# Altium footprint library Capacitors.PcbLib: 22 footprints (part 1 of 2)
Each footprint in its own frame and in the unit in brackets; x right, y up, seen from the top. Pads: shape width x height; smd on the part's side, far side on the other; paste and mask are expansions set on the pad; w line width, h text height; cw(c..) or ccw(c..) is an arc to the next point about the centre after c.
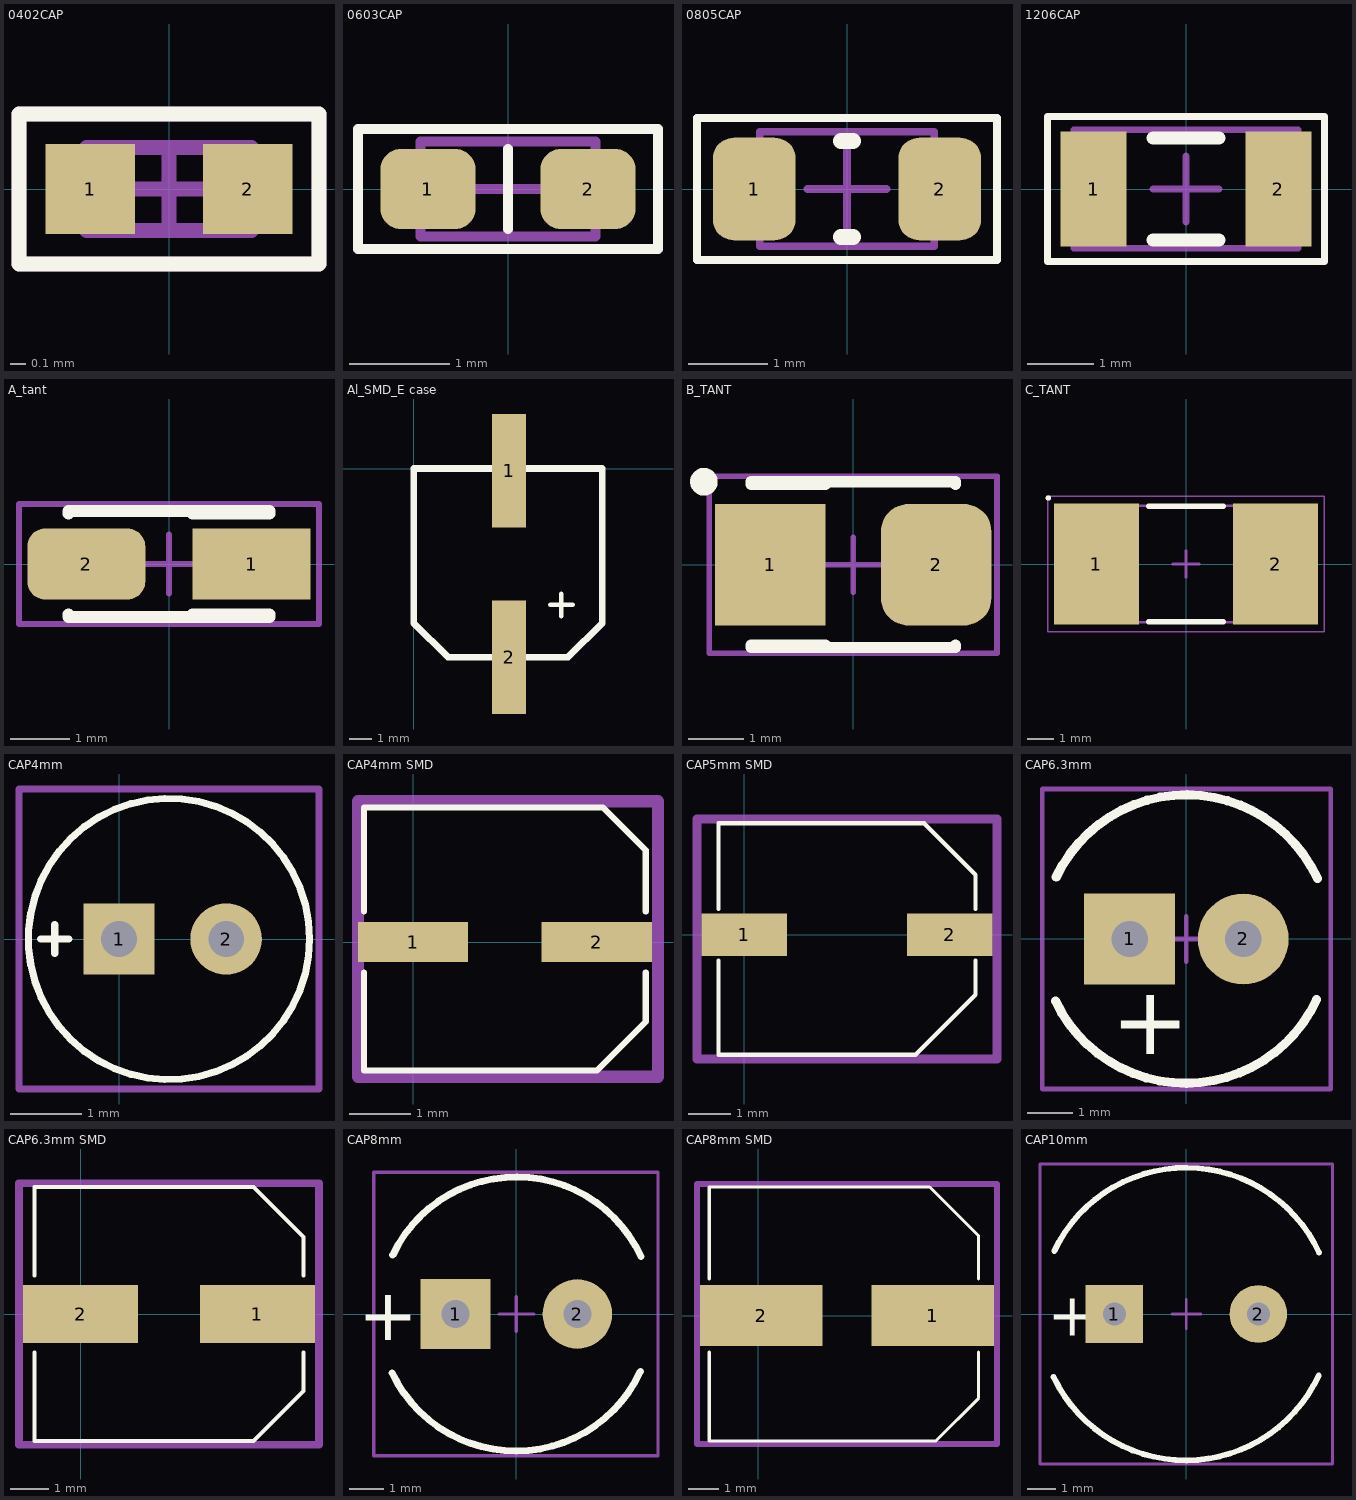
[diagram p0: the footprints below, top view; thin cyan lines are the x and y axes]

## 0402CAP [mm] "Chip Capacitor, 2-Leads, Body 1,1x0,5mm, IPC High Density"
height 0.6
pads (2):
  rect 0.6x0.6 smd: 1(-0.525,0) 2(0.525,0)
Top Overlay:
  lines w0.1: -1,-0.5 -1,0.5 1,0.5 1,-0.5 -1,-0.5
Mechanical 13:
  lines w0.1: -0.55,-0.275 0.55,-0.275 0.55,0.275 -0.55,0.275 -0.55,-0.275
Mechanical 15:
  lines w0.1: -0.275,0 0.275,0 ; 0,-0.275 0,0.275 ; -1,-0.5 1,-0.5 1,0.5 -1,0.5 -1,-0.5
3D body "0402 SMD Capacitor.step": height 0.2, standoff 0, extent -0.5,-0.3 0.5,0.3

## 0603CAP [mm] "Chip Capacitor, 2-Leads, Body 1,7x0,9mm, IPC High Density"
height 0.9
pads (2):
  rrect50% 0.95x0.8 smd: 1(-0.8,0) 2(0.8,0)
Top Overlay:
  lines w0.1: 0,-0.4 0,0.4 ; -1.5,-0.6 -1.5,0.6 1.5,0.6 1.5,-0.6 -1.5,-0.6
Mechanical 13:
  lines w0.1: -0.875,-0.475 0.875,-0.475 0.875,0.475 -0.875,0.475 -0.875,-0.475
Mechanical 15:
  lines w0.1: -0.475,0 0.475,0 ; 0,-0.475 0,0.475 ; -1.5,-0.6 1.5,-0.6 1.5,0.6 -1.5,0.6 -1.5,-0.6
3D body "0603 SMD Capacitor.step": height 0.3, standoff 0, extent -0.8,-0.4 0.8,0.4

## 0805CAP [mm] "Chip Capacitor, 2-Leads, Body 2,1x1,4mm, IPC High Density"
height 1.3
pads (2):
  rrect50% 1.05x1.3 smd: 1(-1.175,0) 2(1.175,0)
Top Overlay:
  lines w0.1: -1.9,-0.9 1.9,-0.9 1.9,0.9 -1.9,0.9 -1.9,-0.9
  lines w0.2: -0.076,-0.61 0.076,-0.61 ; -0.076,0.61 0.076,0.61
Mechanical 13:
  lines w0.1: -1.105,-0.725 -1.105,0.725 1.105,0.725 1.105,-0.725 -1.105,-0.725
Mechanical 15:
  lines w0.1: -0.5,0 0.5,0 ; 0,-0.5 0,0.5 ; -1.9,-0.9 1.9,-0.9 1.9,0.9 -1.9,0.9 -1.9,-0.9
3D body "0805 SMD Capacitor.step": height 0.78, standoff 0, extent -1,-0.625 1,0.625

## 1206CAP [mm] "Chip Capacitor, 2-Leads, Body 3,3x1,7mm, IPC High Density"
height 1.5
pads (2):
  rect 1x1.75 smd: 1(-1.4,0) 2(1.4,0)
Top Overlay:
  lines w0.1: -2.1,-1.1 -2.1,1.1 2.1,1.1 2.1,-1.1 -2.1,-1.1
  lines w0.2: -0.5,-0.775 0.5,-0.775 ; -0.5,0.775 0.5,0.775
Mechanical 13:
  lines w0.1: -1.7,-0.9 1.7,-0.9 1.7,0.9 -1.7,0.9 -1.7,-0.9
Mechanical 15:
  lines w0.1: -0.5,0 0.5,0 ; 0,-0.5 0,0.5 ; -2.1,-1.1 2.1,-1.1 2.1,1.1 -2.1,1.1 -2.1,-1.1
3D body "1206 SMD Capacitor.step": height 1, standoff 0, extent -1.6,-0.8 1.6,0.8

## A_tant [mm] "Capacitor, SM Tantalum; Body 3.2 x 1.6 mm (LxW typ)"
height 1.8
pads (2):
  rect 2x1.2 smd: 1(1.4,0)
  rrect50% 2x1.2 smd: 2(-1.4,0)
Top Overlay:
  lines w0.2: -1.7,-0.85 -1.7,-0.9 1.7,-0.9 ; -1.7,0.85 -1.7,0.9 1.7,0.9 ; 0.4,-0.85 1.7,-0.85 ; 0.4,0.85 1.7,0.85
Mechanical 15:
  lines w0.1: -0.5,0 0.5,0 ; 0,-0.5 0,0.5 ; -2.54,-1.016 -2.54,1.016 2.54,1.016 2.54,-1.016 -2.54,-1.016
3D body "User Library-CaseA_3216-18.step": height 1.6, standoff 0, extent -1.6,-0.8 1.6,0.8

## Al_SMD_E case [mm]
pads (2):
  rect 1.5x5 smd: 1(4.2,-0.1) 2(4.2,-8.3)
Top Overlay:
  lines w0.2: 6,-6 7,-6 ; 6.5,-6.5 6.5,-5.5
  lines w0.3: 0,-6.8 0,0 8.3,0 8.3,-0.9 8.3,-6.8 6.8,-8.3 5.4,-8.3 1.5,-8.3 0,-6.8

## B_TANT [mm] "Capacitor, SM Tantalum; Body 3.5 x 2.8 mm (LxW typ)"
height 2.1
pads (2):
  rect 2x2.2 smd: 1(-1.5,0)
  rrect50% 2x2.2 smd: 2(1.5,0)
Top Overlay:
  circle w0.25: c-2.7,1.5 r0.125
  lines w0.2: -1.85,-1.5 1.85,-1.5 1.85,-1.45 ; -1.85,-1.45 -0.5,-1.45 ; -1.85,1.45 -0.5,1.45 ; -1.85,1.5 1.85,1.5 1.85,1.45
Mechanical 15:
  lines w0.1: -0.5,0 0.5,0 ; 0,-0.5 0,0.5 ; -2.6,-1.6 2.6,-1.6 2.6,1.6 -2.6,1.6 -2.6,-1.6
3D body "Tantalum Capacitor Case B.STEP": height 2.09, standoff -0.01, extent -1.844,-1.393 1.847,1.427

## C_TANT [mm] "Chip Capacitor, 2-Leads, Body 8,90x4,40mm, IPC Medium Density"
height 0.6
pads (2):
  rect 3.2x4.55 smd: 1(-3.375,0) 2(3.375,0)
Top Overlay:
  circle w0.1: c-5.187,2.487 r0.05
  lines w0.2: -1.4,-2.175 1.4,-2.175 ; -1.4,2.175 1.4,2.175
Mechanical 13:
  lines w0.1: -4.45,-2.2 4.45,-2.2 4.45,2.2 -4.45,2.2 -4.45,-2.2
Mechanical 15:
  lines w0.05: -5.2,-2.55 5.2,-2.55 5.2,2.55 -5.2,2.55 -5.2,-2.55
  lines w0.1: -0.5,0 0.5,0 ; 0,-0.5 0,0.5
3D body: height 0.6, standoff 0, extent 1.8,-2.2 4.45,2.2
3D body: height 0.6, standoff 0, extent -4.45,-2.2 -1.8,2.2
3D body: height 0.6, standoff 0, extent -1.8,-2.2 1.8,2.2

## CAP4mm [mm]
height 5
pads (2):
  rect 1x1 hole 0.5: 1(0,0)
  round 1 hole 0.5: 2(1.5,0)
Top Overlay:
  circle w0.1: c0.7,0 r1.969
  lines w0.1: -1.1,0 -0.7,0 ; -0.9,-0.2 -0.9,0.2
Mechanical 15:
  lines w0.1: -1.4,-2.1 -1.4,2.1 2.8,2.1 2.8,-2.1 -1.4,-2.1
3D body "User Library-Cap electrolitic radial 4x7.STEP": height 7.8, standoff -0.7, extent -1.283,-1.991 2.715,2.003

## CAP4mm SMD [mm]
pads (2):
  rect 1.8x0.65 smd: 1(0,0) 2(3,0)
Top Overlay:
  lines w0.1: -0.8,-0.5 -0.8,-2.1 3,-2.1 3.8,-1.3 3.8,-0.5 ; -0.8,0.5 -0.8,2.2 3.1,2.2 3.8,1.5 3.8,0.5
Mechanical 15:
  lines w0.2: -0.9,-2.2 -0.9,2.3 4,2.3 4,-1.8 4,-2.2 -0.9,-2.2
3D body "User Library-ALU-B.STEP": height 5.4, standoff 0, extent -0.8,-2.15 3.8,2.15

## CAP5mm SMD [mm]
pads (2):
  rect 2x1 smd: 1(0,0) 2(4.8,0)
Top Overlay:
  lines w0.1: -0.6,-0.6 -0.6,-2.8 4,-2.8 5.4,-1.4 5.4,-0.6 ; -0.6,0.6 -0.6,2.6 4.2,2.6 5.4,1.4 5.4,0.6
Mechanical 15:
  lines w0.2: -1.1,-2.9 -1.1,2.5 -1.1,2.7 -0.7,2.7 5.9,2.7 5.9,-2.7 5.9,-2.9 -0.2,-2.9 -1.1,-2.9
3D body "User Library-ALU-C.STEP": height 5.41, standoff 0, extent -0.55,-2.75 5.35,2.55

## CAP6.3mm [mm] "Capacitor, Electrolytic, Radial; Body 6.3x12mm (Dia.xH typ); Pin Spacing 2.5mm"
height 12
pads (2):
  rect 2x2 hole 0.8: 1(-1.25,0)
  round 2 hole 0.8: 2(1.25,0)
Top Overlay:
  lines w0.2: -2.886,-1.364 ccw(c-0.017,0.002) 2.867,-1.332 ; -2.866,1.365 cw(c0,0) 2.881,1.333
  text "+" at -1.651,-2.54 h1.5
Mechanical 15:
  lines w0.1: -0.5,0 0.5,0 ; 0,-0.5 0,0.5 ; -3.175,-3.302 3.175,-3.302 3.175,3.302 -3.175,3.302 -3.175,-3.302
3D body "Cap electro 6_3x11x2_5mm.step": height 11.53, standoff -3.01, extent -3.175,-3.175 3.175,3.176

## CAP6.3mm SMD [mm]
height 6.6
pads (2):
  rect 3x1.5 smd: 1(4.6,0) 2(0,0)
Top Overlay:
  lines w0.1: -1.2,1 -1.2,3.3 4.5,3.3 5.8,2 5.8,1 ; 5.8,-1 5.8,-2 4.5,-3.3 -1.2,-3.3 -1.2,-1 ; -1.2,-1 -1.2,-1
Mechanical 15:
  lines w0.2: -1.6,-3.4 -1.6,2.9 -1.6,3.4 -1.3,3.4 6.2,3.4 6.2,-3.3 6.2,-3.4 -1,-3.4 -1.6,-3.4
3D body "User Library-ALU-D.STEP": height 5.4, standoff 0, extent -1.2,-3.3 5.8,3.3

## CAP8mm [mm] "Capacitor, Electrolytic, Radial; Body 8x12mm (Dia.xH typ); Pin Spacing 3.5mm"
pads (2):
  rect 2x2 hole 0.8: 1(-1.75,0)
  round 2 hole 0.8: 2(1.75,0)
Top Overlay:
  lines w0.2: -3.571,-1.691 ccw(c-0.017,0.002) 3.556,-1.651 ; -3.554,1.693 cw(c0,0) 3.573,1.653
  text "+" at -4.55,-0.75 h1.5
Mechanical 15:
  lines w0.1: -0.5,0 0.5,0 ; 0,-0.5 0,0.5 ; -4.1,-4.064 4.064,-4.064 4.064,4.064 -4.1,4.064 -4.1,-4.064
3D body "CAPACITOR RADIAL 8X12.step": height 12, standoff -2.5, extent -4,-4 4,4

## CAP8mm SMD [mm]
pads (2):
  rect 4x2 smd: 1(5.7,0) 2(0.1,0)
Top Overlay:
  lines w0.1: -1.6,-1.2 -1.6,-4.1 5.8,-4.1 7.2,-2.7 7.2,-1.2 ; -1.6,1.2 -1.6,4.2 5.6,4.2 7.2,2.6 7.2,1.2
Mechanical 15:
  lines w0.2: -2,-4.2 -2,4.2 -2,4.3 -1.7,4.3 7.8,4.3 7.8,-2.7 7.8,-4.2 2,-4.2 -2,-4.2
3D body "User Library-ALU-E.STEP": height 6.2, standoff 0, extent -1.6,-4.15 7.4,4.15

## CAP10mm [mm] "Capacitor, Electrolytic, Radial; Body 10x13mm (Dia.xH typ); Pin Spacing 5mm"
height 13
pads (2):
  rect 2x2 hole 0.8: 1(-2.5,0)
  round 2 hole 0.8: 2(2.5,0)
Top Overlay:
  lines w0.2: -4.607,-2.184 ccw(c-0.017,0.002) 4.597,-2.132 ; -4.586,2.184 cw(c0,0) 4.61,2.133
  text "+" at -4.804,-0.75 h1.5
Mechanical 15:
  lines w0.1: -0.5,0 0.5,0 ; 0,-0.5 0,0.5 ; -5.08,-5.207 5.08,-5.207 5.08,5.207 -5.08,5.207 -5.08,-5.207
3D body "CAPACITOR RADIAL 10x13.step": height 12.7, standoff -2.7, extent -5.039,-5.062 5.08,5.063